# EAGLE library part ESP-WROOM (library Eagle_CAD_parts)
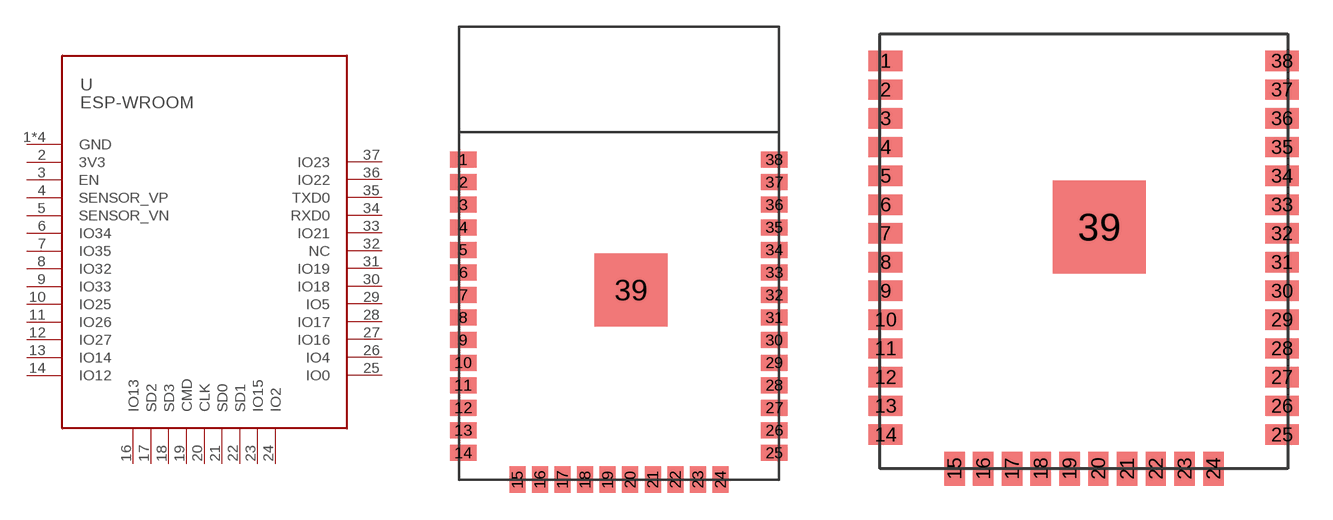
[diagram p80: symbol with the pads of ESP-WROOM_PCKG; footprints ESP-WROOM_PCKG, ESP-WROOM-U_PCKG]

Designator prefix U

## ESP-WROOM-32E (DIGIKEY_PART_NUMBER: 1965-ESP32-WROOM-32E(16MB)CT-ND; MANUFACTURER_PART_NUMBER: ESP32-WROOM-32E (16MB))  [ESP-WROOM_PCKG]
1  GND
2  3V3
3  EN
4  SENSOR_VP
5  SENSOR_VN
6  IO34
7  IO35
8  IO32
9  IO33
10  IO25
11  IO26
12  IO27
13  IO14
14  IO12
15  GND
16  IO13
17  SD2
18  SD3
19  CMD
20  CLK
21  SD0
22  SD1
23  IO15
24  IO2
25  IO0
26  IO4
27  IO16
28  IO17
29  IO5
30  IO18
31  IO19
32  NC
33  IO21
34  RXD0
35  TXD0
36  IO22
37  IO23
38  GND
39  GND

## ESP-WROOM-32UE (DIGIKEY_PART_NUMBER: 1965-ESP32-WROOM-32UE(16MB)CT-ND; MANUFACTURER_PART_NUMBER: ESP32-WROOM-32UE (16MB))  [ESP-WROOM-U_PCKG]
Pads as for ESP-WROOM_PCKG

## Footprint ESP-WROOM_PCKG (pad centres in mm)
smd 1.5 x 0.9: 1 -8.75,5.26; 2 -8.75,3.99; 3 -8.75,2.72; 4 -8.75,1.45; 5 -8.75,0.18; 6 -8.75,-1.09; 7 -8.75,-2.36; 8 -8.75,-3.63; 9 -8.75,-4.9; 10 -8.75,-6.17; 11 -8.75,-7.44; 12 -8.75,-8.71; 13 -8.75,-9.98; 14 -8.75,-11.25; 25 8.75,-11.25; 26 8.75,-9.98; 27 8.75,-8.71; 28 8.75,-7.44; 29 8.75,-6.17; 30 8.75,-4.9; 31 8.75,-3.63; 32 8.75,-2.36; 33 8.75,-1.09; 34 8.75,0.18; 35 8.75,1.45; 36 8.75,2.72; 37 8.75,3.99; 38 8.75,5.26
smd 0.9 x 1.5: 15 -5.71,-12.75; 16 -4.44,-12.75; 17 -3.17,-12.75; 18 -1.9,-12.75; 19 -0.63,-12.75; 20 0.64,-12.75; 21 1.91,-12.75; 22 3.18,-12.75; 23 4.45,-12.75; 24 5.72,-12.75
smd 4.1 x 4.1: 39 0.68,-2.08

## Footprint ESP-WROOM-U_PCKG (pad centres in mm)
smd 1.5 x 0.9: 1 -8.75,5.26; 2 -8.75,3.99; 3 -8.75,2.72; 4 -8.75,1.45; 5 -8.75,0.18; 6 -8.75,-1.09; 7 -8.75,-2.36; 8 -8.75,-3.63; 9 -8.75,-4.9; 10 -8.75,-6.17; 11 -8.75,-7.44; 12 -8.75,-8.71; 13 -8.75,-9.98; 14 -8.75,-11.25; 25 8.75,-11.25; 26 8.75,-9.98; 27 8.75,-8.71; 28 8.75,-7.44; 29 8.75,-6.17; 30 8.75,-4.9; 31 8.75,-3.63; 32 8.75,-2.36; 33 8.75,-1.09; 34 8.75,0.18; 35 8.75,1.45; 36 8.75,2.72; 37 8.75,3.99; 38 8.75,5.26
smd 0.9 x 1.5: 15 -5.71,-12.75; 16 -4.44,-12.75; 17 -3.17,-12.75; 18 -1.9,-12.75; 19 -0.63,-12.75; 20 0.64,-12.75; 21 1.91,-12.75; 22 3.18,-12.75; 23 4.45,-12.75; 24 5.72,-12.75
smd 4.1 x 4.1: 39 0.68,-2.08